# EAGLE library part ATSAML10E16A-AFT (library ATSAML10E16A-AFT)
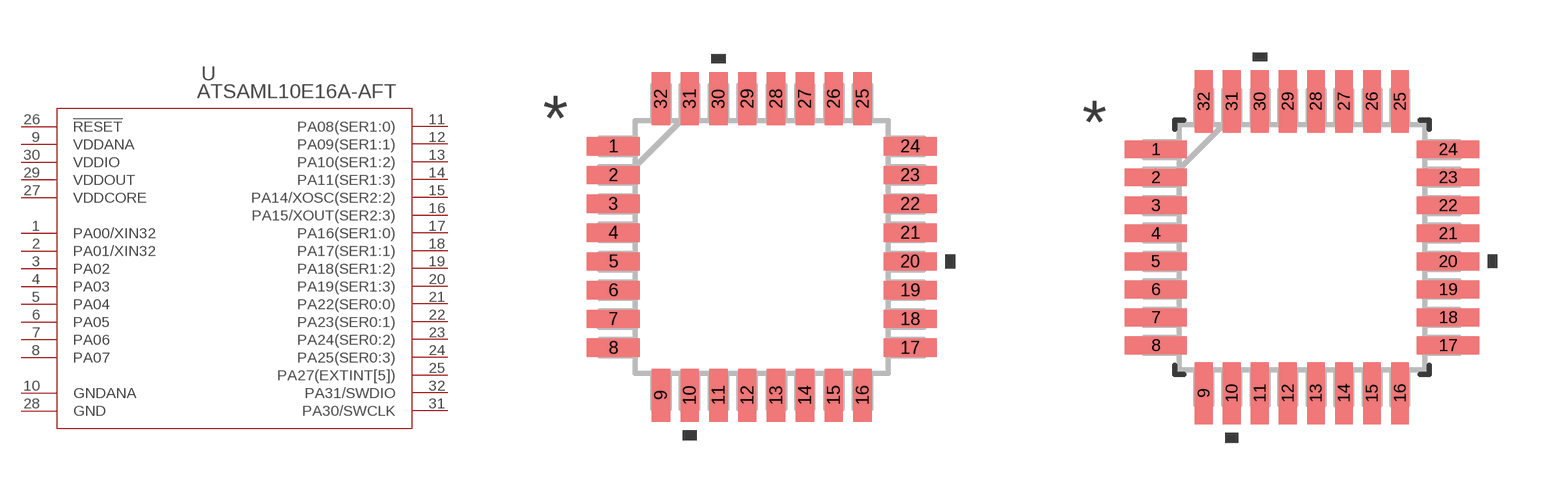
[diagram p0: symbol with the pads of TQFP32_MC_MCH; footprints TQFP32_MC_MCH, TQFP32_MC_MCH-M]

Designator prefix U

## ATSAML10E16A-AFT (BUILT_BY: EMA_Molly; COPYRIGHT: Copyright (C) 2018 Accelerated Designs. All rights reserved; MANUFACTURER_PART_NUMBER: ATSAML10E16A-AFT; SOURCELIBRARY: Microchip_2019-08-23_25; VENDOR: Microchip)  [TQFP32_MC_MCH]
1  PA00/XIN32  in
2  PA01/XIN32  in
3  PA02
4  PA03
5  PA04
6  PA05
7  PA06
8  PA07
9  VDDANA  pwr
10  GNDANA  pas
11  PA08(SER1:0)
12  PA09(SER1:1)
13  PA10(SER1:2)
14  PA11(SER1:3)
15  PA14/XOSC(SER2:2)
16  PA15/XOUT(SER2:3)  out
17  PA16(SER1:0)
18  PA17(SER1:1)
19  PA18(SER1:2)
20  PA19(SER1:3)
21  PA22(SER0:0)
22  PA23(SER0:1)
23  PA24(SER0:2)
24  PA25(SER0:3)
25  PA27(EXTINT[5])
26  !RESET  pas
27  VDDCORE  pwr
28  GND  pas
29  VDDOUT  out
30  VDDIO  pwr
31  PA30/SWCLK
32  PA31/SWDIO

## ATSAML10E16A-AFTTQFP32_MC_MCH-M (BUILT_BY: EMA_Molly; COPYRIGHT: Copyright (C) 2018 Accelerated Designs. All rights reserved; MANUFACTURER_PART_NUMBER: ATSAML10E16A-AFT; SOURCELIBRARY: Microchip_2019-08-23_25; VENDOR: Microchip)  [TQFP32_MC_MCH-M]
Pads as for TQFP32_MC_MCH

## ATSAML10E16A-AFTTQFP32_MC_MCH-L (BUILT_BY: EMA_Molly; COPYRIGHT: Copyright (C) 2018 Accelerated Designs. All rights reserved; MANUFACTURER_PART_NUMBER: ATSAML10E16A-AFT; SOURCELIBRARY: Microchip_2019-08-23_25; VENDOR: Microchip)  [TQFP32_MC_MCH-L]
Pads as for TQFP32_MC_MCH

## Footprint TQFP32_MC_MCH (pad centres in mm)
smd 1.473 x 0.508: 1 -4.119,2.8; 2 -4.119,2; 3 -4.119,1.2; 4 -4.119,0.4; 5 -4.119,-0.4; 6 -4.119,-1.2; 7 -4.119,-2; 8 -4.119,-2.8; 17 4.119,-2.8; 18 4.119,-2; 19 4.119,-1.2; 20 4.119,-0.4; 21 4.119,0.4; 22 4.119,1.2; 23 4.119,2; 24 4.119,2.8
smd 0.508 x 1.473: 9 -2.8,-4.119; 10 -2,-4.119; 11 -1.2,-4.119; 12 -0.4,-4.119; 13 0.4,-4.119; 14 1.2,-4.119; 15 2,-4.119; 16 2.8,-4.119; 25 2.8,4.119; 26 2,4.119; 27 1.2,4.119; 28 0.4,4.119; 29 -0.4,4.119; 30 -1.2,4.119; 31 -2,4.119; 32 -2.8,4.119

## Footprint TQFP32_MC_MCH-M (pad centres in mm)
smd 1.778 x 0.508: 1 -4.17,2.8; 2 -4.17,2; 3 -4.17,1.2; 4 -4.17,0.4; 5 -4.17,-0.4; 6 -4.17,-1.2; 7 -4.17,-2; 8 -4.17,-2.8; 17 4.17,-2.8; 18 4.17,-2; 19 4.17,-1.2; 20 4.17,-0.4; 21 4.17,0.4; 22 4.17,1.2; 23 4.17,2; 24 4.17,2.8
smd 0.508 x 1.778: 9 -2.8,-4.17; 10 -2,-4.17; 11 -1.2,-4.17; 12 -0.4,-4.17; 13 0.4,-4.17; 14 1.2,-4.17; 15 2,-4.17; 16 2.8,-4.17; 25 2.8,4.17; 26 2,4.17; 27 1.2,4.17; 28 0.4,4.17; 29 -0.4,4.17; 30 -1.2,4.17; 31 -2,4.17; 32 -2.8,4.17

## Footprint TQFP32_MC_MCH-L (pad centres in mm)
smd 1.168 x 0.457: 1 -4.068,2.8; 2 -4.068,2; 3 -4.068,1.2; 4 -4.068,0.4; 5 -4.068,-0.4; 6 -4.068,-1.2; 7 -4.068,-2; 8 -4.068,-2.8; 17 4.068,-2.8; 18 4.068,-2; 19 4.068,-1.2; 20 4.068,-0.4; 21 4.068,0.4; 22 4.068,1.2; 23 4.068,2; 24 4.068,2.8
smd 0.457 x 1.168: 9 -2.8,-4.068; 10 -2,-4.068; 11 -1.2,-4.068; 12 -0.4,-4.068; 13 0.4,-4.068; 14 1.2,-4.068; 15 2,-4.068; 16 2.8,-4.068; 25 2.8,4.068; 26 2,4.068; 27 1.2,4.068; 28 0.4,4.068; 29 -0.4,4.068; 30 -1.2,4.068; 31 -2,4.068; 32 -2.8,4.068